# EAGLE library part SLIDE (library pic32)
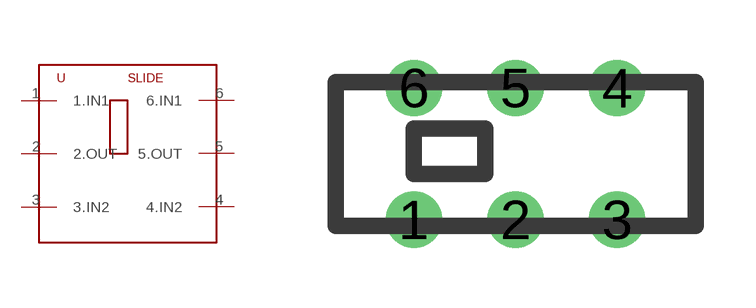
[diagram p1: symbol with the pads of SLIDE; footprint SLIDE]

Designator prefix -

## SLIDE  [SLIDE]
1  1.IN1
2  2.OUT
3  3.IN2
4  4.IN2
5  5.OUT
6  6.IN1

## Footprint SLIDE (pad centres in mm)
drill 0.9: 1 -2.54,-1.65; 2 0,-1.65; 3 2.54,-1.65; 4 2.54,1.65; 5 0,1.65; 6 -2.54,1.65